# EAGLE library part 74FCT244AT (library Buffer)
The IDT octal buffer/line driver is built using an advanced dual metal CMOS technology. The FCT244T is designed to be employed as a memory and address driver, clock driver, and bus-oriented transmitter/ receiver which provides improved board density
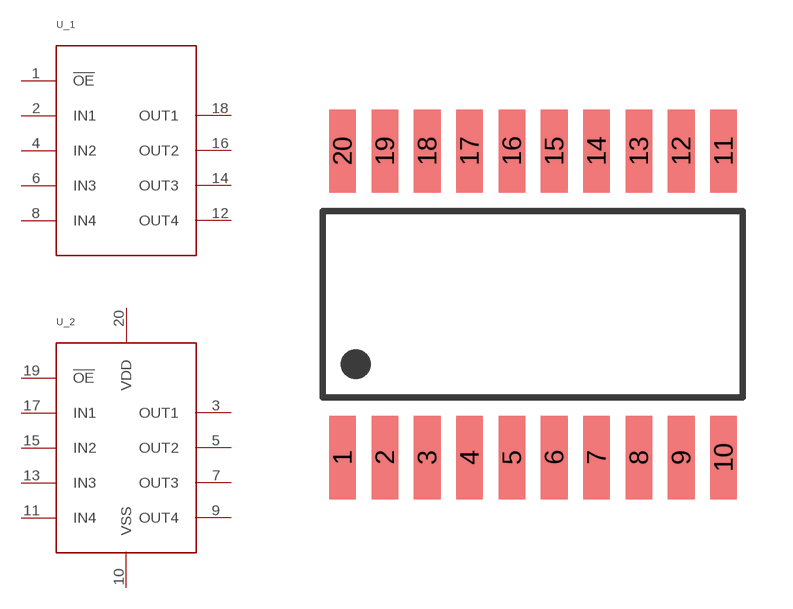
[diagram p0: symbol with the pads of SOIC-20; footprint SOIC-20]

Designator prefix U; gates _1=4_LINEBUFFER _2=4_LINEBUFFER_PWR

## 74FCT244ATSOG8  [SOIC-20]
1  _1:!OE!
2  _1:IN1
3  _2:OUT1
4  _1:IN2
5  _2:OUT2
6  _1:IN3
7  _2:OUT3
8  _1:IN4
9  _2:OUT4
10  _2:VSS  pwr
11  _2:IN4
12  _1:OUT4
13  _2:IN3
14  _1:OUT3
15  _2:IN2
16  _1:OUT2
17  _2:IN1
18  _1:OUT1
19  _2:!OE!
20  _2:VDD  pwr

## Footprint SOIC-20 (pad centres in mm)
smd 0.8 x 2.5: 1 0,0; 2 1.27,0; 3 2.54,0; 4 3.81,0; 5 5.08,0; 6 6.35,0; 7 7.62,0; 8 8.89,0; 9 10.16,0; 10 11.43,0; 11 11.43,9.2; 12 10.16,9.2; 13 8.89,9.2; 14 7.62,9.2; 15 6.35,9.2; 16 5.08,9.2; 17 3.81,9.2; 18 2.54,9.2; 19 1.27,9.2; 20 0,9.2